# Altium footprint library RES_3W.PcbLib: 1 footprints
Each footprint in its own frame and in the unit in brackets; x right, y up, seen from the top. Pads: shape width x height; smd on the part's side, far side on the other; paste and mask are expansions set on the pad; w line width, h text height; cw(c..) or ccw(c..) is an arc to the next point about the centre after c.
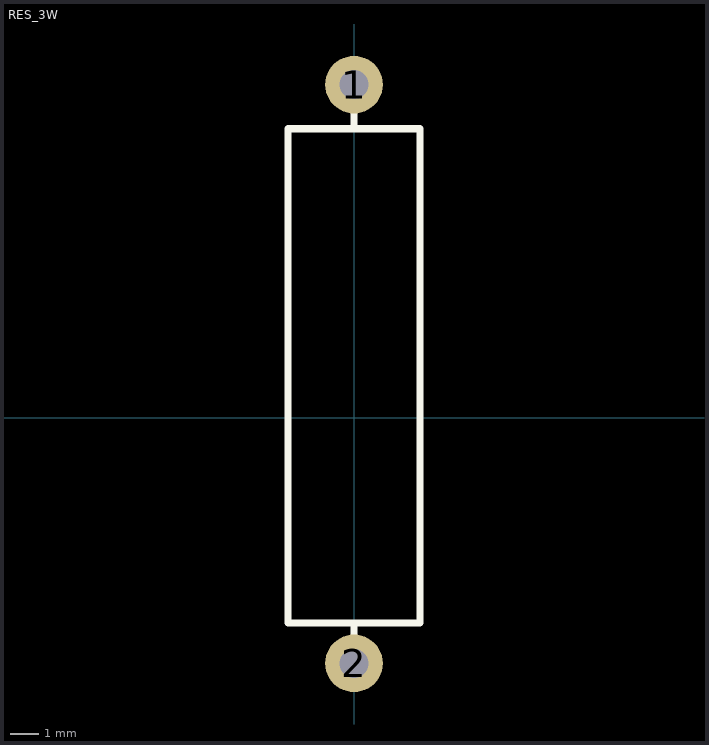
[diagram p0: the footprint, top view; thin cyan lines are the x and y axes]

## RES_3W [mm]
pads (2):
  round 2 hole 1: 1(0,11.557) 2(0,-8.509)
Top Overlay:
  lines w0.254: 0,-7.493 0,-7.112 ; 0,10.033 0,10.541 ; -2.286,-7.112 2.286,-7.112 2.286,10.033 -2.286,10.033 -2.286,-7.112
3D body "HITANO 3W 51 Ohm 5% (MOR300SJTB-51R).STEP": height 7.33, standoff -1.5, extent -2.327,-8.9 2.327,11.9